# Altium schematic symbol library RT9069-50GX5.SchLib: 1 symbol
Pins are listed as number, name and electrical type; pins without a type are passive.

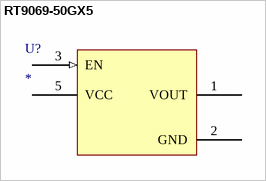
[diagram p0: symbol RT9069-50GX5]

## RT9069-50GX5
designator U?
IC REG LINEAR 5V 200MA SOT89-5; Manufacturer: Richtek; Manufacturer Part Number: RT9069-50GX5; Dropout Voltage: 200mV; Number of Regulators: 1; Supplier 1: Digi-Key; Stock 1: 696; Pricing 1: 1 = 0.97000, 10 = 0.86300, 25 = 0.77920, 100 = 0.68170, 250 = 0.59824, 500 = 0.52868 (USD); RoHS 1: Yes; Mount: Surface Mount; Case/Package: SOT-89-5; Min Operating Temperature: -40°C; Max Operating Temperature: 85°C; Packaging: Tape and Reel; Output Voltage: 5V; Output Current: 200mA; Min Current Limit: 200mA; ComponentLink1URL: http://www.richtek.com/assets/product_file/RT9069/DS9069-02.pdf?src-supplier=Digi-Key; ComponentLink1Description: http://www.richtek.com/assets/product_file/RT9069/DS9069-02.pdf?src-supplier=Digi-Key; Supplier Part Number 1: RT9069-50GX5CT-ND
pins: 1 VOUT (power), 2 GND (power), 3 EN (in), 4 NC hidden, 5 VCC (power)